# EAGLE library part FTDI_DEVICE (library CDC Library v105)
Connector which mates to FTDI basic or FTDI cable.
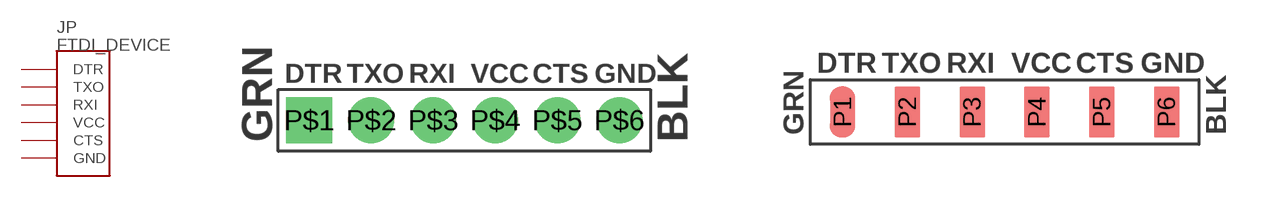
[diagram p8: symbol with the pads of FTDI_DEVICE_SIDE; footprints FTDI_DEVICE_SIDE, FTDI_DEVICE_SMD]

Designator prefix JP

## FTDI_DEVICE  [FTDI_DEVICE_SIDE]
P$1  DTR
P$2  TXO
P$3  RXI
P$4  VCC
P$5  CTS
P$6  GND

## FTDI_DEVICESMD  [FTDI_DEVICE_SMD]
P1  DTR
P2  TXO
P3  RXI
P4  VCC
P5  CTS
P6  GND

## FTDI_DEVICESMALL  [FTDI_DEVICE_SMD_SMALL]
Pads as for FTDI_DEVICE_SMD

## FTDI_DEVICEGTS_FLIP  [FTDI_DEVICE_SMD(GTS_FLIP)]
Pads as for FTDI_DEVICE_SMD

## Footprint FTDI_DEVICE_SIDE (pad centres in mm)
Package for devices meant to mate to an FTDI connector.
drill 1.016 pad 1.88 square: P$1 -6.35,0
drill 1.016 pad 1.88: P$2 -3.81,0; P$3 -1.27,0; P$4 1.27,0; P$5 3.81,0; P$6 6.35,0

## Footprint FTDI_DEVICE_SMD (pad centres in mm)
Package for devices meant to mate to an FTDI connector.
smd 1 x 2: P1 -6.35,0; P2 -3.81,0; P3 -1.27,0; P4 1.27,0; P5 3.81,0; P6 6.35,0

## Footprint FTDI_DEVICE_SMD_SMALL (pad centres in mm)
Package for devices meant to mate to an FTDI connector.
smd 0.813 x 1.676: P1 -3.175,0; P2 -1.905,0; P3 -0.635,0; P4 0.635,0; P5 1.905,0; P6 3.175,0

## Footprint FTDI_DEVICE_SMD(GTS_FLIP) (pad centres in mm)
Package for devices meant to mate to an FTDI connector.
smd 1 x 2: P1 -6.35,0; P2 -3.81,0; P3 -1.27,0; P4 1.27,0; P5 3.81,0; P6 6.35,0